# Altium schematic symbol library EMI FILTER IP4256CZ5-W.Schlib: 1 symbol
Pins are listed as number, name and electrical type; pins without a type are passive.

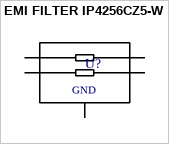
[diagram p0: symbol EMI FILTER IP4256CZ5-W]

## EMI FILTER IP4256CZ5-W
designator U?, comment EMI  (value not drawn)
FILTER RC(PI) 100 OHM/19PF SMD
pins: 1 P$1, 2 P$2, 3 P$3, 4 P$4, 5 P$5
text: GND